# Altium schematic symbol library Components - 23.04.26 - 14.50.SchLib: 1 symbol
Pins are listed as number, name and electrical type; pins without a type are passive.

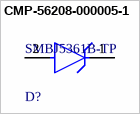
[diagram p0: symbol CMP-56208-000005-1]

## CMP-56208-000005-1
designator D?, comment SMBJ5361B-TP
DIODE ZENER 27V 5W DO214AA; Max Reverse Leakage Current: 500nA; Zener Current: 176mA; Element Configuration: Single; Voltage Tolerance: 5%; Forward Voltage: 1.2V; Test Current: 50mA; Impedance: 5R; Number of Pins: 2; Peak Reverse Current: 500nA; Min Operating Temperature: -55°C; Max Operating Temperature: 150°C; Case/Package: SMB; Max Power Dissipation: 5W; Tolerance: 5%; Packaging: Tape and Reel; Lead Free: Lead Free; Radiation Hardening: No; Power Dissipation: 5W; Working Voltage: 27V; Package Quantity: 3000; Zener Voltage: 27V; Mount: Surface Mount
footprint FP-SMBJ53-MFG
pins: 1 C, 2 A